# Altium footprint library LED 5MM.PcbLib: 3 footprints
Each footprint in its own frame and in the unit in brackets; x right, y up, seen from the top. Pads: shape width x height; smd on the part's side, far side on the other; paste and mask are expansions set on the pad; w line width, h text height; cw(c..) or ccw(c..) is an arc to the next point about the centre after c.
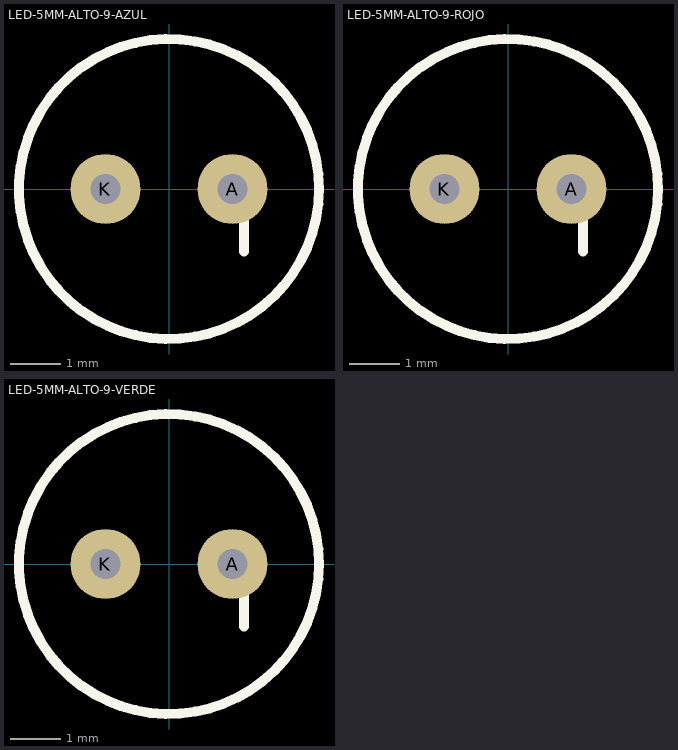
[diagram p0: the footprints below, top view; thin cyan lines are the x and y axes]

## LED-5MM-ALTO-9-AZUL [mm] "LED-5MM-ALTO-9-AZUL"
pads (2):
  round 1.4 hole 0.6: A(1.27,0) K(-1.27,0)
Top Overlay:
  circle w0.2: c0,0 r3
  lines w0.2: 1.5,-1.246 1.5,0
3D body "LED_5MM_BLUE_9.stp": height 15.7, standoff -4, extent -2.9,-2.9 2.9,2.9

## LED-5MM-ALTO-9-ROJO [mm] "LED-5MM-ALTO-9-ROJO"
pads (2):
  round 1.4 hole 0.6: A(1.27,0) K(-1.27,0)
Top Overlay:
  circle w0.2: c0,0 r3
  lines w0.2: 1.5,-1.246 1.5,0
3D body "LED_5MM_RED_9.stp": height 15.7, standoff -4, extent -2.9,-2.9 2.9,2.9

## LED-5MM-ALTO-9-VERDE [mm] "LED-5MM-ALTO-9-VERDE"
pads (2):
  round 1.4 hole 0.6: A(1.27,0) K(-1.27,0)
Top Overlay:
  circle w0.2: c0,0 r3
  lines w0.2: 1.5,-1.246 1.5,0
3D body "LED_5MM_GREEN_9.stp": height 15.7, standoff -4, extent -2.9,-2.9 2.9,2.9